# Altium schematic symbol library SCH_CardSlot.SchLib: 2 symbols
Pins are listed as number, name and electrical type; pins without a type are passive.

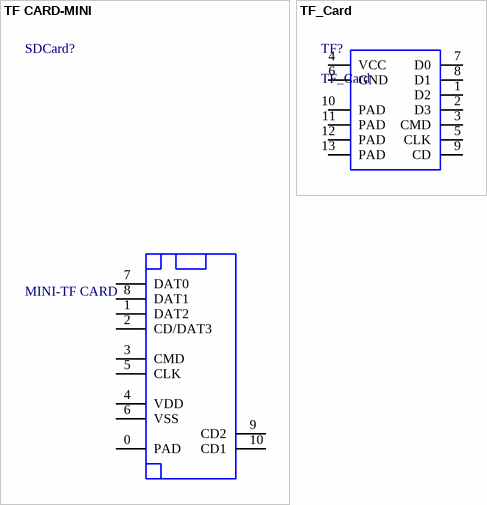
[diagram p0: symbols TF CARD-MINI to TF_Card]

## TF CARD-MINI
designator SDCard?, comment MINI-TF CARD
footprint TF-CARD-MINI
pins: 0 PAD, 1 DAT2, 2 CD/DAT3, 3 CMD, 4 VDD, 5 CLK, 6 VSS, 7 DAT0, 8 DAT1, 9 CD2, 10 CD1

## TF_Card
designator TF?
footprint TF_Card
pins: 1 D2, 2 D3, 3 CMD, 4 VCC, 5 CLK, 6 GND, 7 D0, 8 D1, 9 CD, 10 PAD, 11 PAD, 12 PAD, 13 PAD